# EAGLE library part IRS2186S (library Gate_Drivers)
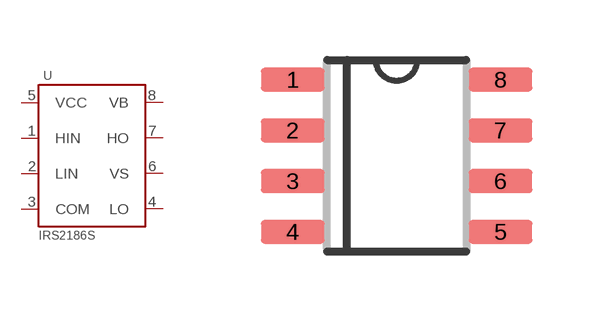
[diagram p3: symbol with the pads of SOIC-8; footprint SOIC-8]

Designator prefix U

## IRS2186S  [SOIC-8]
1  HIN  in
2  LIN  in
3  COM  pwr
4  LO
5  VCC  pwr
6  VS
7  HO
8  VB  pas

## Footprint SOIC-8 (pad centres in mm)
smd 1.6 x 0.6: 1 -2.6,1.905; 2 -2.6,0.635; 3 -2.6,-0.635; 4 -2.6,-1.905; 5 2.6,-1.905; 6 2.6,-0.635; 7 2.6,0.635; 8 2.6,1.905